# EAGLE library part BME280 (library awqua_eagle_library)
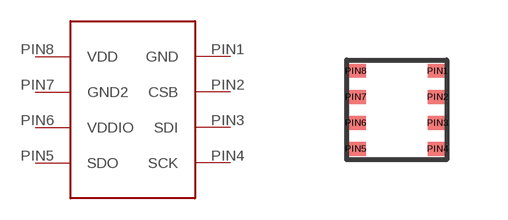
[diagram p8: symbol with the pads of BME280; footprint BME280]

Designator prefix -

## BME280  [BME280]
PIN1  GND
PIN2  CSB
PIN3  SDI
PIN4  SCK
PIN5  SDO
PIN6  VDDIO
PIN7  GND2
PIN8  VDD

## Footprint BME280 (pad centres in mm)
smd 0.5 x 0.35: PIN1 2.275,2.225; PIN2 2.275,1.575; PIN3 2.275,0.925; PIN4 2.275,0.275; PIN5 0.225,0.275; PIN6 0.225,0.925; PIN7 0.225,1.575; PIN8 0.225,2.225